# EAGLE library part HEADER-SHF-105-01-L-D-SM (library Connector)
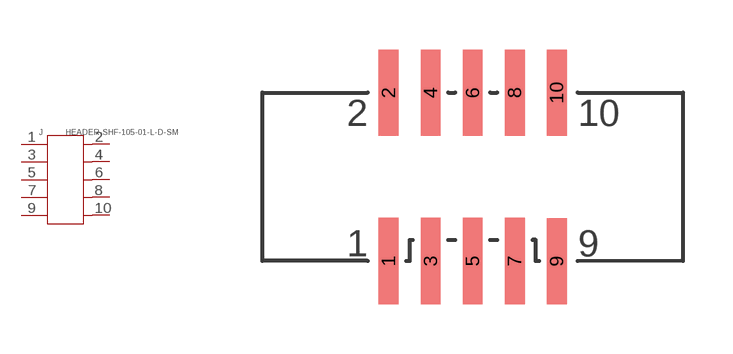
[diagram p36: symbol with the pads of SHF-105-01-L-D-SM; footprint SHF-105-01-L-D-SM]

Designator prefix J

## HEADER-SHF-105-01-L-D-SM  [SHF-105-01-L-D-SM]
1  P$1
2  P$2
3  P$3
4  P$4
5  P$5
6  P$6
7  P$7
8  P$8
9  P$9
10  P$10

## Footprint SHF-105-01-L-D-SM (pad centres in mm)
smd 0.6 x 2.6: 1 -2.54,-2.54; 2 -2.54,2.54; 3 -1.27,-2.54; 4 -1.27,2.54; 5 0,-2.54; 6 0,2.54; 7 1.27,-2.54; 8 1.27,2.54; 9 2.54,-2.546; 10 2.54,2.54